# Altium schematic symbol library 1N5339BG.SchLib: 2 symbols
Pins are listed as number, name and electrical type; pins without a type are passive.

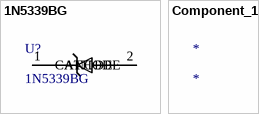
[diagram p0: symbols 1N5339BG to Component_1]

## 1N5339BG
designator U?
No Description Available; Mfr_Name: onsemi; Copyright: Copyright (C) 2022 Ultra Librarian. All rights reserved.; Manufacturer_Part_Number: 1N5339BG; RefDes: RefDes; Type: DEV
footprint CASE_17AA-01_ONS
pins: 1 CATHODE, 2 ANODE

## Component_1
designator *